# Altium schematic symbol library AIGateway.SchLib: 12 symbols
Pins are listed as number, name and electrical type; pins without a type are passive.

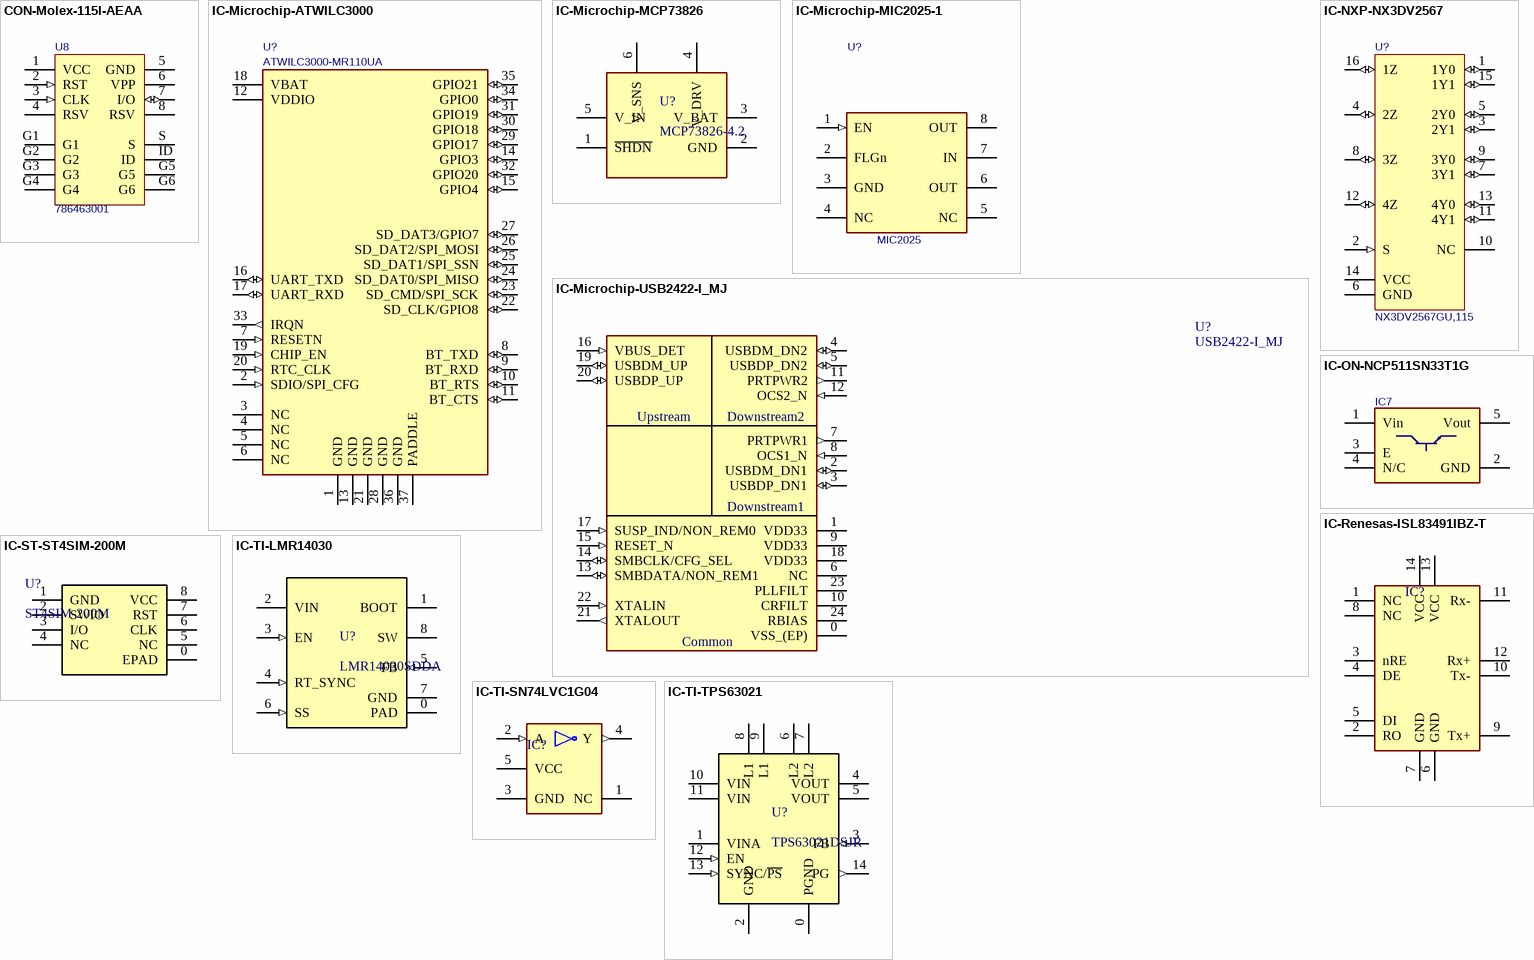
[diagram p0: symbols CON-Molex-115I-AEAA to IC-TI-TPS63021]

## CON-Molex-115I-AEAA
designator U8, comment 786463001
Mixro SIM Card Push-Pull; FP_DESC: microSIM card holder; MFG: MOLEX; Symbol Checked: D; Replacement Allowed: Ask; MFG_PN: 786463001; Footprint Checked: -; Supplier 1: Digi-Key; Supplier Part Number 1: WM9364CT-ND
footprint 786463001
pins: 1 VCC (power), 2 RST (in), 3 CLK (in), 4 RSV, 5 GND (power), 6 VPP (power), 7 I/O (io), 8 RSV, G1, G2, G3, G4, G5, G6, ID, S

## IC-Microchip-ATWILC3000
designator U?, comment ATWILC3000-MR110UA
BlueTooth, WiFi 802.11b/g/n, BlueTooth v4.0 Módulos de transceptor RF 2.4GHz Antena no incluida, U.FL Montaje en superficie; FP_DESC: ATWILC3000-MR110CA Module; MFG: MICROCHIP; Replacement Allowed: No; Footprint Checked: -; MFG_PN: ATWILC3000-MR110UA; Symbol Checked: -; Supplier 1: Digi-Key; Supplier Part Number 1: ATWILC3000-MR110UA-ND
footprint ATWILC3000-MR110CA
pins: 1 GND (power), 2 SDIO/SPI_CFG (in), 3 NC, 4 NC, 5 NC, 6 NC, 7 RESETN (in), 8 BT_TXD (io), 9 BT_RXD (io), 10 BT_RTS (io), 11 BT_CTS (io), 12 VDDIO (power), 13 GND (power), 14 GPIO3 (io), 15 GPIO4 (io), 16 UART_TXD (io), 17 UART_RXD (io), 18 VBAT (power), 19 CHIP_EN (in), 20 RTC_CLK (in), 21 GND (power), 22 SD_CLK/GPIO8 (io), 23 SD_CMD/SPI_SCK (io), 24 SD_DAT0/SPI_MISO (io), 25 SD_DAT1/SPI_SSN (io), 26 SD_DAT2/SPI_MOSI (io), 27 SD_DAT3/GPIO7 (io), 28 GND (power), 29 GPIO17 (io), 30 GPIO18 (io), 31 GPIO19 (io), 32 GPIO20 (io), 33 IRQN (out), 34 GPIO0 (io), 35 GPIO21 (io), 36 GND (power), 37 PADDLE (power)

## IC-Microchip-MCP73826
designator U?, comment MCP73826-4.2
Charger IC Lithium Ion SOT-23-6; Supplier 1: Digi-Key; Supplier 2: Digi-Key; Supplier Part Number 1: MCP73826-4.2VCHCT-ND; Supplier Part Number 2: MCP73826-4.2VCHDKR-ND; Footprint Checked: -; Manufacturer Part Number: MCP73826-4.2; Symbol Checked: -; Footprint Description: SOT-23-6
footprint SOT95P284X122-6N (SOT23, 6-Leads)
pins: 1 ~{SHDN}, 2 GND, 3 V_BAT, 4 V_DRV, 5 V_IN, 6 V_SNS

## IC-Microchip-MIC2025-1
designator U?, comment Manufacturer Part No.: MIC2025  (hidden comment: MIC2025-1)
Power Switch/Driver 1:1 N-Channel 500mA 8-MSOP; Manufacturer Name: Texas Instruments; Symbol Checked: T; Supplier 1: Digi-Key; Supplier Part Number 1: MIC2025-1YM-CT-ND; Footprint Checked: -
footprint SOIC127P600X175-8N
pins: 1 EN (in), 2 FLGn (oc), 3 GND (power), 4 NC (hiz), 5 NC (hiz), 6 OUT (power), 7 IN (power), 8 OUT (power)

## IC-Microchip-USB2422-I_MJ
designator U?, comment USB2422-I_MJ
USB Hub Controller USB 2.0 USB Interface 24-QFN (4x4); Manufacturer_Name: Microchip; Manufacturer_Part_Number: USB2422-I/MJ; Datasheet Link: http://docs-emea.rs-online.com/webdocs/12de/0900766b812ded94.pdf; Height: 1mm; Mouser Price/Stock: https://www.mouser.co.uk/ProductDetail/Microchip-Technology/USB2422-I-MJ?qs=eTPcRhULBzzm1uvzgv8YJg%3D%3D; Supplier 1: Digi-Key; Supplier Part Number 1: USB2422-I/MJ-ND
footprint QFN50P400X400X80-25N (QFN,0.50mm pitch,square;24 pin,4.00mm L X 4.00mm W X 0.75mm H body (w/thermal tab))
pins: 0 VSS_(EP) (power), 1 VDD33 (power), 2 USBDM_DN1 (io), 3 USBDP_DN1 (io), 4 USBDM_DN2 (io), 5 USBDP_DN2 (io), 6 NC, 7 PRTPWR1 (out), 8 OCS1_N (in), 9 VDD33 (power), 10 CRFILT, 11 PRTPWR2 (out), 12 OCS2_N (in), 13 SMBDATA/NON_REM1 (io), 14 SMBCLK/CFG_SEL (io), 15 RESET_N (in), 16 VBUS_DET (in), 17 SUSP_IND/NON_REM0 (in), 18 VDD33 (power), 19 USBDM_UP (io), 20 USBDP_UP (io), 21 XTALOUT (out), 22 XTALIN (in), 23 PLLFILT, 24 RBIAS
text: Upstream; Downstream2; Downstream1; Common

## IC-NXP-NX3DV2567
designator U?, comment NX3DV2567GU,115
Networking Switch IC 1 Channel 16-XQFN (1.8x2.6); MFG: NXP; FP_DESC: XFQFN-16; Symbol Checked: D; Replacement Allowed: No; MFG_PN: NX3DV2567GU,115; Footprint Checked: -; Supplier 1: Digi-Key; Supplier Part Number 1: 568-5206-1-ND
footprint XFQFN-16 (Footprint not found)
pins: 1 1Y0 (io), 2 S (in), 3 2Y1 (io), 4 2Z (io), 5 2Y0 (io), 6 GND (power), 7 3Y1 (io), 8 3Z (io), 9 3Y0 (io), 10 NC, 11 4Y1 (io), 12 4Z (io), 13 4Y0 (io), 14 VCC (power), 15 1Y1 (io), 16 1Z (io)

## IC-ON-NCP511SN33T1G
designator IC7, comment NCP511SN33T1G  (value not drawn)
NCP511SN33T1G LDO Regulator; Manufacturer Name: ON Semiconductor; Supplier 1: Digi-Key; Manufacturer Part No.: NCP511SN33T1G; Supplier Part Number 1: NCP511SN33T1GOSCT-ND; Footprint Checked: -; Symbol Checked: -
footprint SOT95P279X142-5N
pins: 1 Vin, 2 GND, 3 E, 4 N/C, 5 Vout

## IC-Renesas-ISL83491IBZ-T
designator IC?, comment ISL83491IBZ-T  (value not drawn)
Transceptor 1/1 Completo RS422, RS485 14-SOIC; Manufacturer Name: Renesas Electronics America Inc; Manufacturer Part No.: ISL83491IBZ-T; Supplier 1: Digi-Key; Supplier Part Number 1: ISL83491IBZ-TCT-ND; Symbol Checked: -; Footprint Checked: -
footprint SOIC127P600X175-14N (SOIC 14 pin)
pins: 1 NC, 2 RO, 3 nRE, 4 DE, 5 DI, 6 GND, 7 GND, 8 NC, 9 Tx+, 10 Tx-, 11 Rx-, 12 Rx+, 13 VCC, 14 VCC

## IC-ST-ST4SIM-200M
designator U?, comment ST4SIM-200M
No Description Available; Built_By: EMA_Matt; Vendor: STMicroelectronics; SourceLibrary: STMicroelectronics_2020-09-30_1; Datasheet: https://www.st.com/resource/en/data_brief/st4sim-200m.pdf; Copyright: Copyright (C) 2018 Accelerated Designs. All rights reserved; Manufacturer_Part_Number: ST4SIM-200M; RefDes: RefDes; Type: DEV
footprint SON_IM-200M_STM
footprint ST4SIM-200M
pins: 0 EPAD, 1 GND, 2 SWIO, 3 I/O, 4 NC, 5 NC, 6 CLK, 7 RST, 8 VCC (power)

## IC-TI-LMR14030
designator U?, comment LMR14030SDDA
Buck Switching Regulator IC Positive Adjustable 0.8V 1 Output 3.5A 8-PowerSOIC (0.154", 3.90mm Width); Manufacturer: Texas Instruments; PartNumber: LMR14030; RefDes: RefDes; Type: DEV; Value: Value; Copyright: Copyright (C) 2018 Accelerated Designs. All rights reserved; Supplier 1: Digi-Key; Supplier Part Number 1: 296-44321-1-ND
footprint SOIC127P600X175-9AN-2 (SOIC,1.27mm,pitch;8 pin,3.90mm W X 4.90mm L X 1.75mm H body (w/thermal tab))
pins: 0 PAD (power), 1 BOOT (power), 2 VIN (power), 3 EN (in), 4 RT_SYNC (in), 5 FB (in), 6 SS (in), 7 GND (power), 8 SW (power)

## IC-TI-SN74LVC1G04
designator IC?, comment SN74LVC1G04  (value not drawn)
IC INVERTER 1CH 1-INP SC70-5; Manufacturer Name: Texas Instruments; Supplier 1: Digi-Key; Supplier Part Number 1: 296-11600-1-ND; Manufacturer Part No.: SN74LVC1G04
footprint SOT65P210X110-5N
pins: 1 NC, 2 A (in), 3 GND (power), 4 Y (out), 5 VCC (power)

## IC-TI-TPS63021
designator U?, comment TPS63021DSJR
Buck-Boost Switching Regulator IC Positive Fixed 3.3V 1 Output 3.5A (Switch) 14-VFDFN Exposed Pad; Manufacturer: Texas Instruments; PartNumber: TPS63021; RefDes: RefDes; Type: DEV; Value: Value; Supplier 1: Digi-Key; Supplier Part Number 1: 296-27259-1-ND
footprint DSJ14_2P85X1P58
pins: 0 PGND, 1 VINA (power), 2 GND (power), 3 FB (in), 4 VOUT (power), 5 VOUT (power), 6 L2 (power), 7 L2 (power), 8 L1 (power), 9 L1 (power), 10 VIN (power), 11 VIN (power), 12 EN (in), 13 SYNC/~{PS} (in), 14 PG (out)